# EAGLE library part CYUSB3064-BZXC (library library)
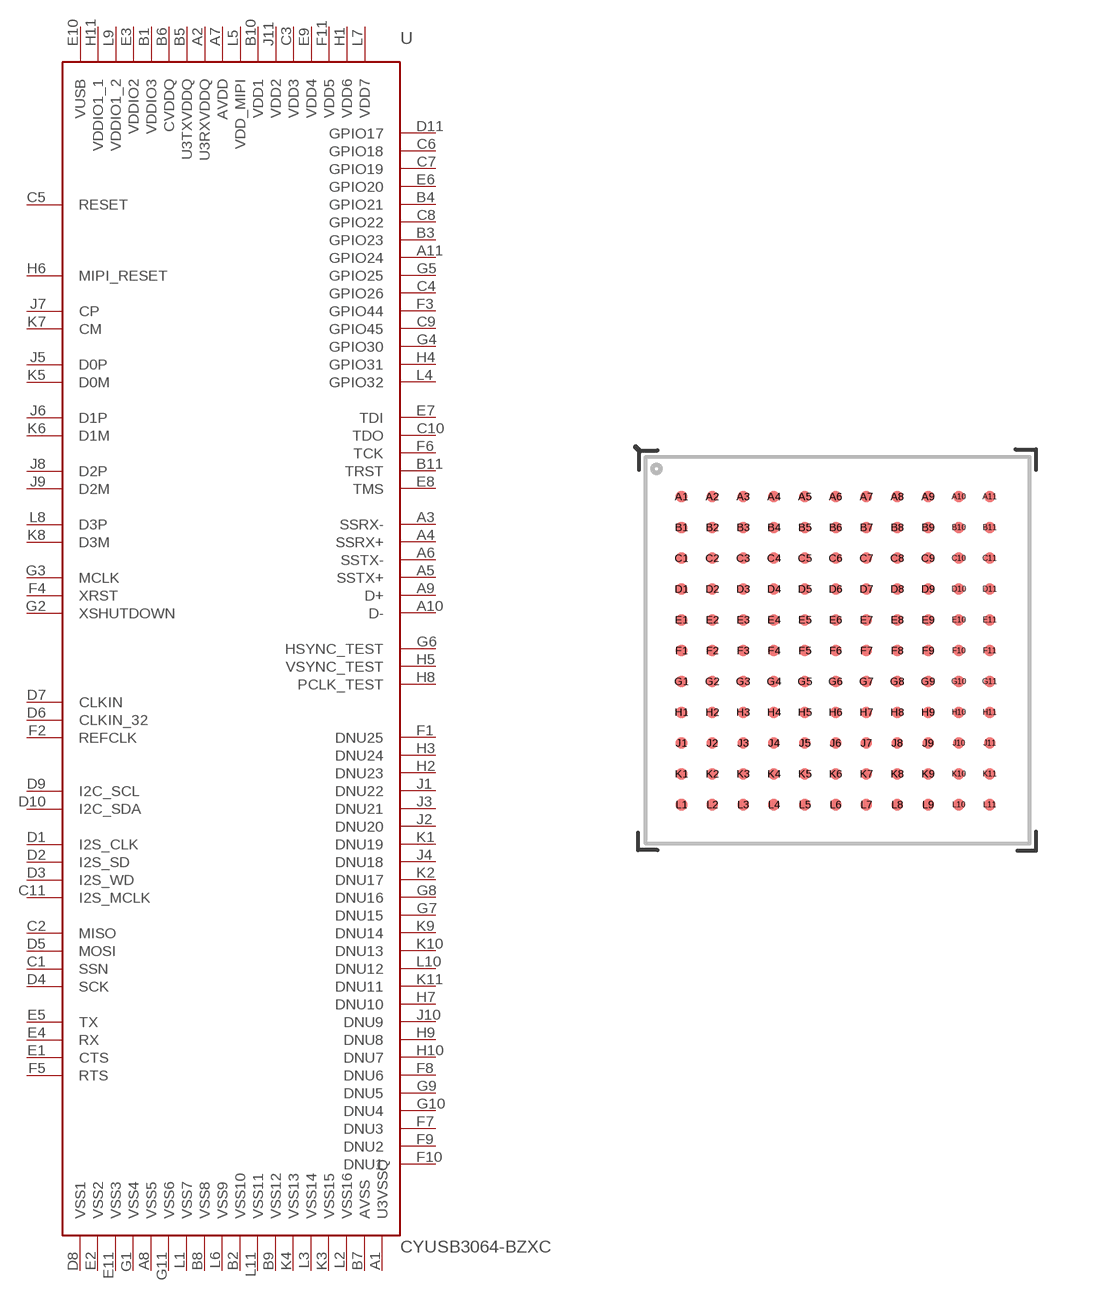
[diagram p2: symbol with the pads of BGA121; footprint BGA121]

Designator prefix U

## CYUSB3064-BZXC  [BGA121]
A1  U3VSSQ
A2  U3RXVDDQ
A3  SSRX-
A4  SSRX+
A5  SSTX+
A6  SSTX-
A7  AVDD
A8  VSS5
A9  D+
A10  D-
A11  GPIO24
B1  VDDIO3
B2  VSS10
B3  GPIO23
B4  GPIO21
B5  U3TXVDDQ
B6  CVDDQ
B7  AVSS
B8  VSS8
B9  VSS12
B10  VDD1
B11  TRST
C1  SSN
C2  MISO
C3  VDD3
C4  GPIO26
C5  RESET
C6  GPIO18
C7  GPIO19
C8  GPIO22
C9  GPIO45
C10  TDO
C11  I2S_MCLK
D1  I2S_CLK
D2  I2S_SD
D3  I2S_WD
D4  SCK
D5  MOSI
D6  CLKIN_32
D7  CLKIN
D8  VSS1
D9  I2C_SCL
D10  I2C_SDA
D11  GPIO17
E1  CTS
E2  VSS2
E3  VDDIO2
E4  RX
E5  TX
E6  GPIO20
E7  TDI
E8  TMS
E9  VDD4
E10  VUSB
E11  VSS3
F1  DNU25
F2  REFCLK
F3  GPIO44
F4  XRST
F5  RTS
F6  TCK
F7  DNU3
F8  DNU6
F9  DNU2
F10  DNU1
F11  VDD5
G1  VSS4
G2  XSHUTDOWN
G3  MCLK
G4  GPIO30
G5  GPIO25
G6  HSYNC_TEST
G7  DNU15
G8  DNU16
G9  DNU5
G10  DNU4
G11  VSS6
H1  VDD6
H2  DNU23
H3  DNU24
H4  GPIO31
H5  VSYNC_TEST
H6  MIPI_RESET
H7  DNU10
H8  PCLK_TEST
H9  DNU8
H10  DNU7
H11  VDDIO1_1
J1  DNU22
J2  DNU20
J3  DNU21
J4  DNU18
J5  D0P
J6  D1P
J7  CP
J8  D2P
J9  D2M
J10  DNU9
J11  VDD2
K1  DNU19
K2  DNU17
K3  VSS15
K4  VSS13
K5  D0M
K6  D1M
K7  CM
K8  D3M
K9  DNU14
K10  DNU13
K11  DNU11
L1  VSS7
L2  VSS16
L3  VSS14
L4  GPIO32
L5  VDD_MIPI
L6  VSS9
L7  VDD7
L8  D3P
L9  VDDIO1_2
L10  DNU12
L11  VSS11

## Footprint BGA121 (pad centres in mm)
smd 0.3 x 0.3: A1 -4,4; A2 -3.2,4; A3 -2.4,4; A4 -1.6,4; A5 -0.8,4; A6 0,4; A7 0.8,4; A8 1.6,4; A9 2.4,4; A10 3.2,4; A11 4,4; B1 -4,3.2; B2 -3.2,3.2; B3 -2.4,3.2; B4 -1.6,3.2; B5 -0.8,3.2; B6 0,3.2; B7 0.8,3.2; B8 1.6,3.2; B9 2.4,3.2; B10 3.2,3.2; B11 4,3.2; C1 -4,2.4; C2 -3.2,2.4; C3 -2.4,2.4; C4 -1.6,2.4; C5 -0.8,2.4; C6 0,2.4; C7 0.8,2.4; C8 1.6,2.4; C9 2.4,2.4; C10 3.2,2.4; C11 4,2.4; D1 -4,1.6; D2 -3.2,1.6; D3 -2.4,1.6; D4 -1.6,1.6; D5 -0.8,1.6; D6 0,1.6; D7 0.8,1.6; D8 1.6,1.6; D9 2.4,1.6; D10 3.2,1.6; D11 4,1.6; E1 -4,0.8; E2 -3.2,0.8; E3 -2.4,0.8; E4 -1.6,0.8; E5 -0.8,0.8; E6 0,0.8; E7 0.8,0.8; E8 1.6,0.8; E9 2.4,0.8; E10 3.2,0.8; E11 4,0.8; F1 -4,0; F2 -3.2,0; F3 -2.4,0; F4 -1.6,0; F5 -0.8,0; F6 0,0; F7 0.8,0; F8 1.6,0; F9 2.4,0; F10 3.2,0; F11 4,0; G1 -4,-0.8; G2 -3.2,-0.8; G3 -2.4,-0.8; G4 -1.6,-0.8; G5 -0.8,-0.8; G6 0,-0.8; G7 0.8,-0.8; G8 1.6,-0.8; G9 2.4,-0.8; G10 3.2,-0.8; G11 4,-0.8; H1 -4,-1.6; H2 -3.2,-1.6; H3 -2.4,-1.6; H4 -1.6,-1.6; H5 -0.8,-1.6; H6 0,-1.6; H7 0.8,-1.6; H8 1.6,-1.6; H9 2.4,-1.6; H10 3.2,-1.6; H11 4,-1.6; J1 -4,-2.4; J2 -3.2,-2.4; J3 -2.4,-2.4; J4 -1.6,-2.4; J5 -0.8,-2.4; J6 0,-2.4; J7 0.8,-2.4; J8 1.6,-2.4; J9 2.4,-2.4; J10 3.2,-2.4; J11 4,-2.4; K1 -4,-3.2; K2 -3.2,-3.2; K3 -2.4,-3.2; K4 -1.6,-3.2; K5 -0.8,-3.2; K6 0,-3.2; K7 0.8,-3.2; K8 1.6,-3.2; K9 2.4,-3.2; K10 3.2,-3.2; K11 4,-3.2; L1 -4,-4; L2 -3.2,-4; L3 -2.4,-4; L4 -1.6,-4; L5 -0.8,-4; L6 0,-4; L7 0.8,-4; L8 1.6,-4; L9 2.4,-4; L10 3.2,-4; L11 4,-4